# EAGLE library part SN65HVD230 (library oli)
3.3 V CAN Transeiver Operates With a 3.3-V Supply Low Power Replacement for the PCA82C250 Footprint Bus/Pin ESD Protection Exceeds 16 kV HBM High Input Impedance Allows for 120 Nodes on a Bus Controlled Driver Output Transition Times for Improved Signal Quality on the SN65HVD230 and SN65HVD231 Unpowered Node Does Not Disturb the Bus Compatible With the Requirements of the ISO 11898 Standard Low-Current SN65HVD230 Standby Mode 370 ?A Typical Low-Current SN65HVD231 Sleep Mode 40 nA Typical Designed for Signaling Rates? up to 1 Megabit/Second (Mbps) Thermal Shutdown Protection Open-Circuit Fail-Safe Design Glitch-Free Power-Up and Power-Down Protection for Hot-Plugging Applications
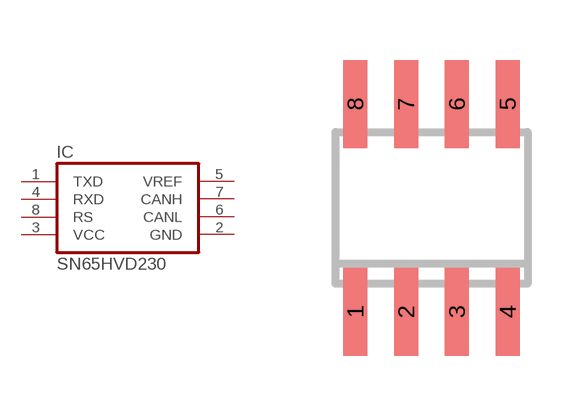
[diagram p5: symbol with the pads of SO08; footprint SO08]

Designator prefix IC

## SN65HVD230  [SO08]
1  TXD  in
2  GND  pwr
3  VCC  pwr
4  RXD  out
5  VREF  pas
6  CANL  pas
7  CANH  pas
8  RS  pas

## Footprint SO08 (pad centres in mm)
SMALL OUTLINE INTEGRATED CIRCUIT body 3.9 mm/JEDEC MS-012AA
smd 0.6 x 2.2: 1 -1.905,-2.6; 2 -0.635,-2.6; 3 0.635,-2.6; 4 1.905,-2.6; 5 1.905,2.6; 6 0.635,2.6; 7 -0.635,2.6; 8 -1.905,2.6